# EAGLE library part 662014231822 (library Wire-to-Board (rev18a))
WR-MPC3 3.00mm Male Dual Row SMT Vertical Header with SMT Fitting Nail, 14 Pins=>Code : Con_WTB_MPC3_2_PCB_SMT_662014231822 <http://katalog.we-online.de/media/thumbs2/eican/thb_Con_WTB_MPC3_2_PCB_SMT_6620xx231822_pf2.jpg> Details see: http://katalog.we-online.de/en/em/MPC3_3_00_SMT_MALE_DUAL_ROW_VERTICAL_HEADER_W_SMT_SOLDER_TAB_6623XX231822 Created 2014-06-06, Karrer Zheng 2014 (C) Würth Elektronik
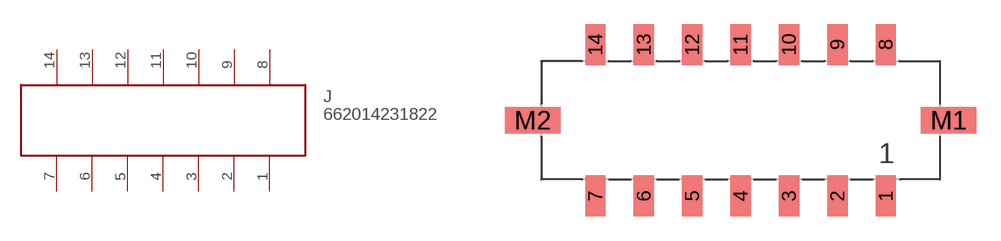
[diagram p371: symbol with the pads of 662014231822; footprint 662014231822]

Designator prefix J

## 662014231822  [662014231822]
1  1
2  2
3  3
4  4
5  5
6  6
7  7
8  8
9  9
10  10
11  11
12  12
13  13
14  14

## Footprint 662014231822 (pad centres in mm)
WR-MPC3 3.00mm Male Dual Row SMT Vertical Header with SMT Fitting Nail, 14 Pins
smd 1.27 x 2.54: 1 9,-4.7; 2 6,-4.7; 3 3,-4.7; 4 0,-4.7; 5 -3,-4.7; 6 -6,-4.7; 7 -9,-4.7; 8 9,4.7; 9 6,4.7; 10 3,4.7; 11 0,4.7; 12 -3,4.7; 13 -6,4.7; 14 -9,4.7
smd 3.43 x 1.65: M1 12.895,0; M2 -12.895,0